# Altium integrated library TI_Logic_Little_Logic.IntLib: 1164 symbols (part 22 of 35)
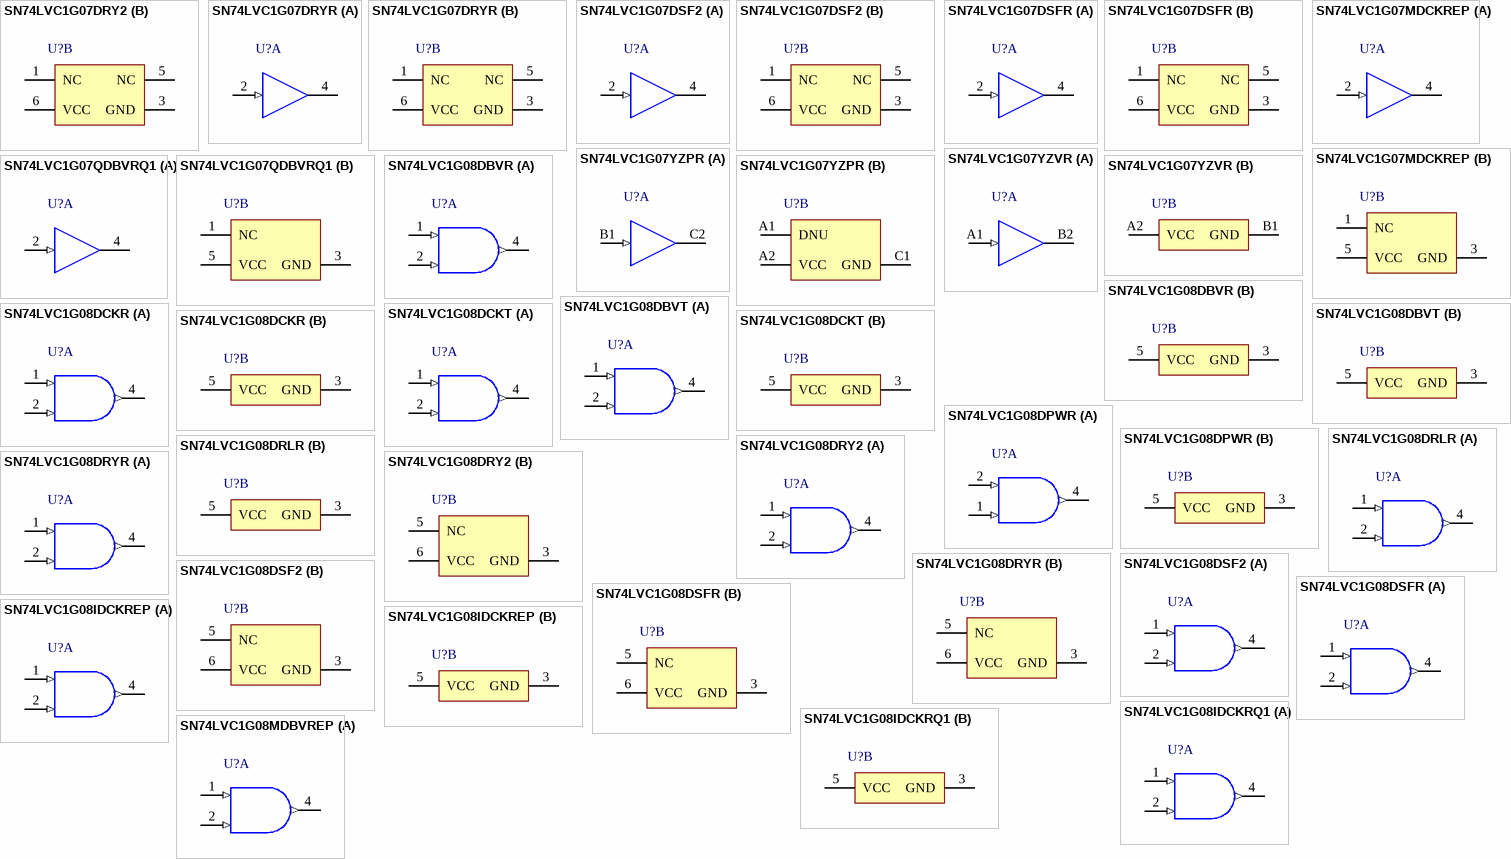
[diagram p81: symbols SN74LVC1G07DRY2 to SN74LVC1G08MDBVREP]

## SN74LVC1G08DRY2
designator U?
Single 2-Input Positive-AND Gate, DRY0006A, LARGE T&R; Generic Part Number: SN74LVC1G08; Manufacturer: Texas Instruments; PartNumber: SN74LVC1G08DRY2; VCC(Min)(V): 1.65; VCC(Max)(V): 5.5; Output Type: CMOS; ICC @ Nom Voltage(Max)(mA): 0.01; Input Type: CMOS/TTL; Bits(#): 1; F @ Nom Voltage(Max)(Mhz): 150; Rating: Catalog; Technology Family: LVC; Voltage(Nom)(V): 1.8,2.5,3.3,5; Schmitt Trigger: No; Output Drive (IOL/IOH)(Max)(mA): 32/-32; tpd @ Nom Voltage(Max)(ns): 4.5,6,4,5; Logic: True; Gate Type: AND; DatasheetVersion: SCES217Y; PackageReference: DRY0006A; Supplier 1: Mouser; Supplier Part Number 1: 595-SN74LVC1G08DRY2; Supplier 2: Digi-Key; Supplier Part Number 2: SN74LVC1G08DRY2-ND; Operating Temperature Range(C): -40 to 125,-40 to 85; Sub-Family: AND Gate; 3-State Output: No; ComponentLink1Description: Manufacturer URL; ComponentLink1URL: http://www.ti.com/; ComponentLink2Description: Datasheet; ComponentLink2URL: http://www.ti.com/lit/ds/symlink/sn74lvc1g08.pdf
footprint DRY0006A_V (SON, 6-Leads, Body 1.45x1mm, Pitch 0.5mm)
part A pins: 1 A (in) "Input A", 2 B (in) "Input B", 4 Y (out) "Output Y"
part B pins: 3 GND (power) "Ground", 5 NC "No internal connection", 6 VCC (power) "Power Pin"

## SN74LVC1G08DRYR
designator U?
Single 2-Input Positive-AND Gate, DRY0006A, LARGE T&R; Generic Part Number: SN74LVC1G08; Manufacturer: Texas Instruments; PartNumber: SN74LVC1G08DRYR; VCC(Min)(V): 1.65; VCC(Max)(V): 5.5; Output Type: CMOS; ICC @ Nom Voltage(Max)(mA): 0.01; Input Type: CMOS/TTL; Bits(#): 1; F @ Nom Voltage(Max)(Mhz): 150; Rating: Catalog; Technology Family: LVC; Voltage(Nom)(V): 1.8,2.5,3.3,5; Schmitt Trigger: No; Output Drive (IOL/IOH)(Max)(mA): 32/-32; tpd @ Nom Voltage(Max)(ns): 4.5,6,4,5; Logic: True; Gate Type: AND; DatasheetVersion: SCES217Y; PackageReference: DRY0006A; Supplier 1: Mouser; Supplier Part Number 1: 595-SN74LVC1G08DRYR; Supplier 2: Digi-Key; Supplier Part Number 2: 296-21815-2-ND; Supplier 3: Digi-Key; Supplier Part Number 3: 296-21815-1-ND; Supplier 4: Digi-Key; Supplier Part Number 4: 296-21815-6-ND; Operating Temperature Range(C): -40 to 125,-40 to 85; Sub-Family: AND Gate; 3-State Output: No; ComponentLink1Description: Manufacturer URL; ComponentLink1URL: http://www.ti.com/; ComponentLink2Description: Datasheet; ComponentLink2URL: http://www.ti.com/lit/ds/symlink/sn74lvc1g08.pdf
footprint DRY0006A_V (SON, 6-Leads, Body 1.45x1mm, Pitch 0.5mm)
part A pins: 1 A (in) "Input A", 2 B (in) "Input B", 4 Y (out) "Output Y"
part B pins: 3 GND (power) "Ground", 5 NC "No internal connection", 6 VCC (power) "Power Pin"

## SN74LVC1G08DSF2
designator U?
Single 2-Input Positive-AND Gate, DSF0006A, LARGE T&R; Generic Part Number: SN74LVC1G08; Manufacturer: Texas Instruments; PartNumber: SN74LVC1G08DSF2; VCC(Min)(V): 1.65; VCC(Max)(V): 5.5; Output Type: CMOS; ICC @ Nom Voltage(Max)(mA): 0.01; Input Type: CMOS/TTL; Bits(#): 1; F @ Nom Voltage(Max)(Mhz): 150; Rating: Catalog; Technology Family: LVC; Voltage(Nom)(V): 1.8,2.5,3.3,5; Schmitt Trigger: No; Output Drive (IOL/IOH)(Max)(mA): 32/-32; tpd @ Nom Voltage(Max)(ns): 4.5,6,4,5; Logic: True; Gate Type: AND; DatasheetVersion: SCES217Y; PackageReference: DSF0006A; Supplier 1: Mouser; Supplier Part Number 1: 595-SN74LVC1G08DSF2; Supplier 2: Digi-Key; Supplier Part Number 2: SN74LVC1G08DSF2-ND; Operating Temperature Range(C): -40 to 125,-40 to 85; Sub-Family: AND Gate; 3-State Output: No; ComponentLink1Description: Manufacturer URL; ComponentLink1URL: http://www.ti.com/; ComponentLink2Description: Datasheet; ComponentLink2URL: http://www.ti.com/lit/ds/symlink/sn74lvc1g08.pdf
footprint DSF0006A_V (SON, 6-Leads, Body 1x1mm, Pitch 0.35mm, TI Recommend)
part A pins: 1 A (in) "Input A", 2 B (in) "Input B", 4 Y (out) "Output Y"
part B pins: 3 GND (power) "Ground", 5 NC "No internal connection", 6 VCC (power) "Power Pin"

## SN74LVC1G08DSFR
designator U?
Single 2-Input Positive-AND Gate, DSF0006A, LARGE T&R; Generic Part Number: SN74LVC1G08; Manufacturer: Texas Instruments; PartNumber: SN74LVC1G08DSFR; VCC(Min)(V): 1.65; VCC(Max)(V): 5.5; Output Type: CMOS; ICC @ Nom Voltage(Max)(mA): 0.01; Input Type: CMOS/TTL; Bits(#): 1; F @ Nom Voltage(Max)(Mhz): 150; Rating: Catalog; Technology Family: LVC; Voltage(Nom)(V): 1.8,2.5,3.3,5; Schmitt Trigger: No; Output Drive (IOL/IOH)(Max)(mA): 32/-32; tpd @ Nom Voltage(Max)(ns): 4.5,6,4,5; Logic: True; Gate Type: AND; DatasheetVersion: SCES217Y; PackageReference: DSF0006A; Supplier 1: Mouser; Supplier Part Number 1: 595-SN74LVC1G08DSFR; Supplier 2: Digi-Key; Supplier Part Number 2: 296-28375-2-ND; Supplier 3: Digi-Key; Supplier Part Number 3: 296-28375-1-ND; Supplier 4: Digi-Key; Supplier Part Number 4: 296-28375-6-ND; Operating Temperature Range(C): -40 to 125,-40 to 85; Sub-Family: AND Gate; 3-State Output: No; ComponentLink1Description: Manufacturer URL; ComponentLink1URL: http://www.ti.com/; ComponentLink2Description: Datasheet; ComponentLink2URL: http://www.ti.com/lit/ds/symlink/sn74lvc1g08.pdf
footprint DSF0006A_V (SON, 6-Leads, Body 1x1mm, Pitch 0.35mm, TI Recommend)
part A pins: 1 A (in) "Input A", 2 B (in) "Input B", 4 Y (out) "Output Y"
part B pins: 3 GND (power) "Ground", 5 NC "No internal connection", 6 VCC (power) "Power Pin"

## SN74LVC1G08IDCKREP
designator U?
Enhanced Product Single 2-Input Positive-And Gate, DCK0005A, LARGE T&R; Generic Part Number: SN74LVC1G08-EP; Manufacturer: Texas Instruments; PartNumber: SN74LVC1G08IDCKREP; VCC(Min)(V): 1.65; VCC(Max)(V): 5.5; Output Type: CMOS; ICC @ Nom Voltage(Max)(mA): 0.01; Input Type: CMOS/TTL; Bits(#): 1; F @ Nom Voltage(Max)(Mhz): 150; Rating: HiRel Enhanced Product; Technology Family: LVC; Voltage(Nom)(V): 1.8,2.5,3.3,5; Schmitt Trigger: No; Output Drive (IOL/IOH)(Max)(mA): 32/-32; tpd @ Nom Voltage(Max)(ns): 8,5.5,4.5,4; Logic: True; Gate Type: AND; DatasheetVersion: SCES454C; PackageReference: DCK0005A; Supplier 1: Mouser; Supplier Part Number 1: 595-SN74LVC08IDCKREP; Supplier 2: Digi-Key; Supplier Part Number 2: 296-22344-2-ND; Supplier 3: Digi-Key; Supplier Part Number 3: 296-22344-1-ND; Supplier 4: Digi-Key; Supplier Part Number 4: 296-22344-6-ND; Operating Temperature Range(C): -40 to 85,-55 to 125; Sub-Family: AND Gate; 3-State Output: No; ComponentLink1Description: Manufacturer URL; ComponentLink1URL: http://www.ti.com/; ComponentLink2Description: Datasheet; ComponentLink2URL: http://www.ti.com/lit/ds/symlink/sn74lvc1g08-ep.pdf
footprint DCK0005A_N (SOT23, 5-Leads, Body 2.15x1.4mm, Pitch 0.65mm, IPC Medium Density)
footprint DCK0005A_M (SOT23, 5-Leads, Body 2.15x1.4mm, Pitch 0.65mm, IPC Low Density)
footprint DCK0005A_L (SOT23, 5-Leads, Body 2.15x1.4mm, Pitch 0.65mm, IPC High Density)
part A pins: 1 A (in) "Input A", 2 B (in) "Input B", 4 Y (out) "Output Y"
part B pins: 3 GND (power) "Ground Pin", 5 VCC (power) "Power Pin"

## SN74LVC1G08IDCKRQ1
designator U?
Automotive Catalog Single 2-Input Positive-AND Gate, DCK0005A, LARGE T&R; Generic Part Number: SN74LVC1G08-Q1; Manufacturer: Texas Instruments; PartNumber: SN74LVC1G08IDCKRQ1; VCC(Min)(V): 1.65; VCC(Max)(V): 5.5; Output Type: CMOS; ICC @ Nom Voltage(Max)(mA): 0.01; Input Type: CMOS/TTL; Bits(#): 1; F @ Nom Voltage(Max)(Mhz): 150; Technology Family: LVC; Voltage(Nom)(V): 1.8,2.5,3.3,5; Schmitt Trigger: No; Output Drive (IOL/IOH)(Max)(mA): 32/-32; tpd @ Nom Voltage(Max)(ns): 8,5.5,4.5,4; Logic: True; Gate Type: AND; DatasheetVersion: SCES556F; PackageReference: DCK0005A; Supplier 1: Mouser; Supplier Part Number 1: 595-SN74LVC1G08IDCQ1; Supplier 2: Digi-Key; Supplier Part Number 2: SN74LVC1G08IDCKRQ1-ND; Operating Temperature Range(C): -40 to 125,-40 to 85; Rating: Automotive; Sub-Family: AND Gate; 3-State Output: No; ComponentLink1Description: Manufacturer URL; ComponentLink1URL: http://www.ti.com/; ComponentLink2Description: Datasheet; ComponentLink2URL: http://www.ti.com/lit/ds/symlink/sn74lvc1g08-q1.pdf
footprint DCK0005A_N (SOT23, 5-Leads, Body 2.15x1.4mm, Pitch 0.65mm, IPC Medium Density)
footprint DCK0005A_M (SOT23, 5-Leads, Body 2.15x1.4mm, Pitch 0.65mm, IPC Low Density)
footprint DCK0005A_L (SOT23, 5-Leads, Body 2.15x1.4mm, Pitch 0.65mm, IPC High Density)
part A pins: 1 A (in) "Input A", 2 B (in) "Input B", 4 Y (out) "Output Y"
part B pins: 3 GND (power) "Ground Pin", 5 VCC (power) "Power Pin"

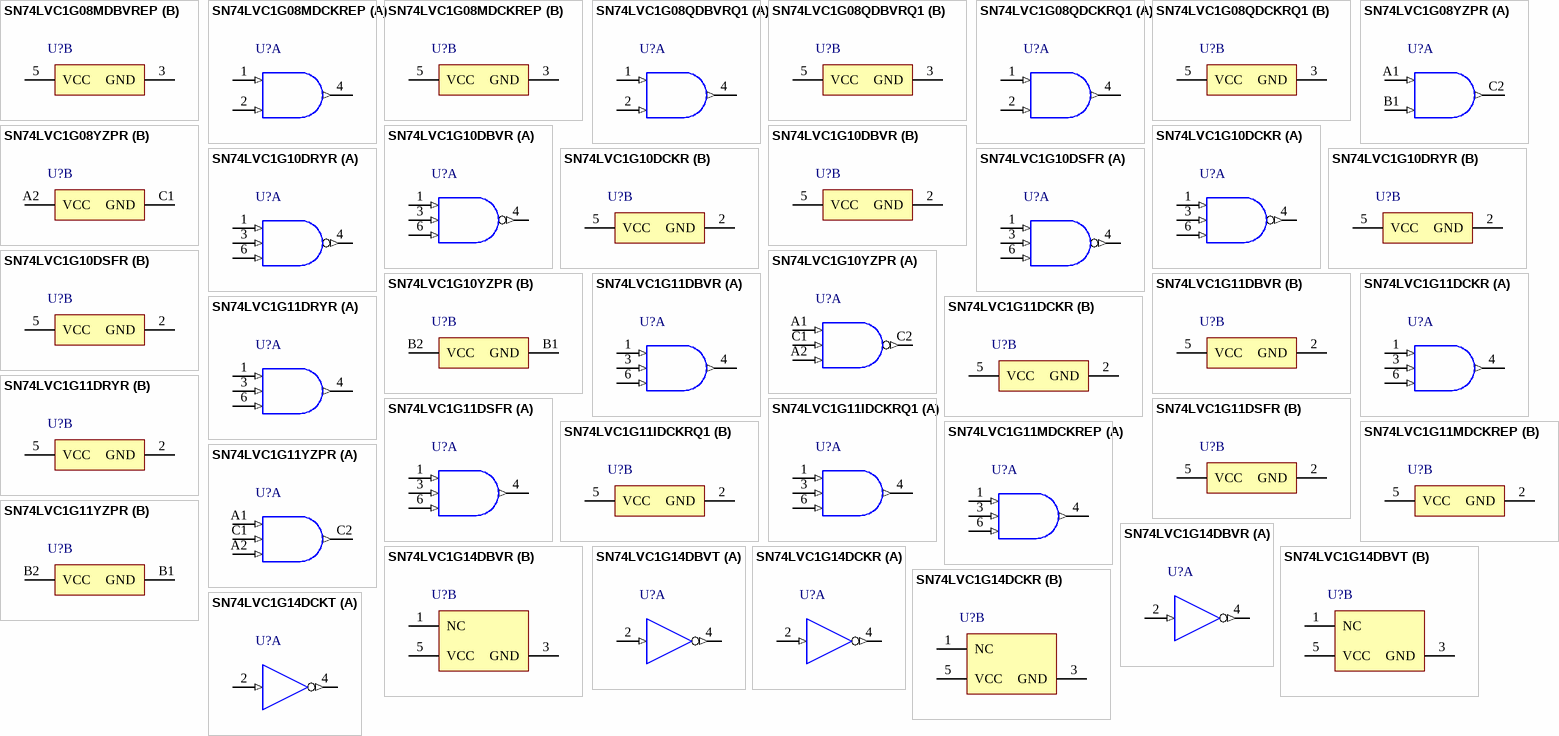
[diagram p37: symbols SN74LVC1G08MDBVREP to SN74LVC1G14DCKT]

## SN74LVC1G08MDBVREP
designator U?
Enhanced Product Single 2-Input Positive-And Gate, DBV0005A, LARGE T&R; Generic Part Number: SN74LVC1G08-EP; Manufacturer: Texas Instruments; PartNumber: SN74LVC1G08MDBVREP; VCC(Min)(V): 1.65; VCC(Max)(V): 5.5; Output Type: CMOS; ICC @ Nom Voltage(Max)(mA): 0.01; Input Type: CMOS/TTL; Bits(#): 1; F @ Nom Voltage(Max)(Mhz): 150; Rating: HiRel Enhanced Product; Technology Family: LVC; Voltage(Nom)(V): 1.8,2.5,3.3,5; Schmitt Trigger: No; Output Drive (IOL/IOH)(Max)(mA): 32/-32; tpd @ Nom Voltage(Max)(ns): 8,5.5,4.5,4; Logic: True; Gate Type: AND; DatasheetVersion: SCES454C; PackageReference: DBV0005A; Supplier 1: Mouser; Supplier Part Number 1: 595-SN74LVC08MDBVREP; Supplier 2: Digi-Key; Supplier Part Number 2: 296-22345-2-ND; Supplier 3: Digi-Key; Supplier Part Number 3: 296-22345-1-ND; Supplier 4: Digi-Key; Supplier Part Number 4: 296-22345-6-ND; Operating Temperature Range(C): -40 to 85,-55 to 125; Sub-Family: AND Gate; 3-State Output: No; ComponentLink1Description: Manufacturer URL; ComponentLink1URL: http://www.ti.com/; ComponentLink2Description: Datasheet; ComponentLink2URL: http://www.ti.com/lit/ds/symlink/sn74lvc1g08-ep.pdf
footprint DBV0005A_N (SOT23, 5-Leads, Body 3.05x1.75mm, Pitch 0.95mm, IPC Medium Density)
footprint DBV0005A_M (SOT23, 5-Leads, Body 3.05x1.75mm, Pitch 0.95mm, IPC Low Density)
footprint DBV0005A_L (SOT23, 5-Leads, Body 3.05x1.75mm, Pitch 0.95mm, IPC High Density)
part A pins: 1 A (in) "Input A", 2 B (in) "Input B", 4 Y (out) "Output Y"
part B pins: 3 GND (power) "Ground Pin", 5 VCC (power) "Power Pin"

## SN74LVC1G08MDCKREP
designator U?
Enhanced Product Single 2-Input Positive-And Gate, DCK0005A, LARGE T&R; Generic Part Number: SN74LVC1G08-EP; Manufacturer: Texas Instruments; PartNumber: SN74LVC1G08MDCKREP; VCC(Min)(V): 1.65; VCC(Max)(V): 5.5; Output Type: CMOS; ICC @ Nom Voltage(Max)(mA): 0.01; Input Type: CMOS/TTL; Bits(#): 1; F @ Nom Voltage(Max)(Mhz): 150; Rating: HiRel Enhanced Product; Technology Family: LVC; Voltage(Nom)(V): 1.8,2.5,3.3,5; Schmitt Trigger: No; Output Drive (IOL/IOH)(Max)(mA): 32/-32; tpd @ Nom Voltage(Max)(ns): 8,5.5,4.5,4; Logic: True; Gate Type: AND; DatasheetVersion: SCES454C; PackageReference: DCK0005A; Supplier 1: Mouser; Supplier Part Number 1: 595-SN74LVC08MDCKREP; Supplier 2: Digi-Key; Supplier Part Number 2: 296-20772-2-ND; Supplier 3: Digi-Key; Supplier Part Number 3: 296-20772-1-ND; Supplier 4: Digi-Key; Supplier Part Number 4: 296-20772-6-ND; Operating Temperature Range(C): -40 to 85,-55 to 125; Sub-Family: AND Gate; 3-State Output: No; ComponentLink1Description: Manufacturer URL; ComponentLink1URL: http://www.ti.com/; ComponentLink2Description: Datasheet; ComponentLink2URL: http://www.ti.com/lit/ds/symlink/sn74lvc1g08-ep.pdf
footprint DCK0005A_N (SOT23, 5-Leads, Body 2.15x1.4mm, Pitch 0.65mm, IPC Medium Density)
footprint DCK0005A_M (SOT23, 5-Leads, Body 2.15x1.4mm, Pitch 0.65mm, IPC Low Density)
footprint DCK0005A_L (SOT23, 5-Leads, Body 2.15x1.4mm, Pitch 0.65mm, IPC High Density)
part A pins: 1 A (in) "Input A", 2 B (in) "Input B", 4 Y (out) "Output Y"
part B pins: 3 GND (power) "Ground Pin", 5 VCC (power) "Power Pin"

## SN74LVC1G08QDBVRQ1
designator U?
Automotive Catalog Single 2-Input Positive-AND Gate, DBV0005A, LARGE T&R; Generic Part Number: SN74LVC1G08-Q1; Manufacturer: Texas Instruments; PartNumber: SN74LVC1G08QDBVRQ1; VCC(Min)(V): 1.65; VCC(Max)(V): 5.5; Output Type: CMOS; ICC @ Nom Voltage(Max)(mA): 0.01; Input Type: CMOS/TTL; Bits(#): 1; F @ Nom Voltage(Max)(Mhz): 150; Technology Family: LVC; Voltage(Nom)(V): 1.8,2.5,3.3,5; Schmitt Trigger: No; Output Drive (IOL/IOH)(Max)(mA): 32/-32; tpd @ Nom Voltage(Max)(ns): 8,5.5,4.5,4; Logic: True; Gate Type: AND; DatasheetVersion: SCES556F; PackageReference: DBV0005A; Supplier 1: Mouser; Supplier Part Number 1: 595-SN74LVC1G08QDBQ1; Supplier 2: Digi-Key; Supplier Part Number 2: 296-24187-2-ND; Supplier 3: Digi-Key; Supplier Part Number 3: 296-24187-1-ND; Supplier 4: Digi-Key; Supplier Part Number 4: 296-24187-6-ND; Operating Temperature Range(C): -40 to 125,-40 to 85; Rating: Automotive; Sub-Family: AND Gate; 3-State Output: No; ComponentLink1Description: Manufacturer URL; ComponentLink1URL: http://www.ti.com/; ComponentLink2Description: Datasheet; ComponentLink2URL: http://www.ti.com/lit/ds/symlink/sn74lvc1g08-q1.pdf
footprint DBV0005A_N (SOT23, 5-Leads, Body 3.05x1.75mm, Pitch 0.95mm, IPC Medium Density)
footprint DBV0005A_M (SOT23, 5-Leads, Body 3.05x1.75mm, Pitch 0.95mm, IPC Low Density)
footprint DBV0005A_L (SOT23, 5-Leads, Body 3.05x1.75mm, Pitch 0.95mm, IPC High Density)
part A pins: 1 A (in) "Input A", 2 B (in) "Input B", 4 Y (out) "Output Y"
part B pins: 3 GND (power) "Ground Pin", 5 VCC (power) "Power Pin"

## SN74LVC1G08QDCKRQ1
designator U?
Automotive Catalog Single 2-Input Positive-AND Gate, DCK0005A, LARGE T&R; Generic Part Number: SN74LVC1G08-Q1; Manufacturer: Texas Instruments; PartNumber: SN74LVC1G08QDCKRQ1; VCC(Min)(V): 1.65; VCC(Max)(V): 5.5; Output Type: CMOS; ICC @ Nom Voltage(Max)(mA): 0.01; Input Type: CMOS/TTL; Bits(#): 1; F @ Nom Voltage(Max)(Mhz): 150; Technology Family: LVC; Voltage(Nom)(V): 1.8,2.5,3.3,5; Schmitt Trigger: No; Output Drive (IOL/IOH)(Max)(mA): 32/-32; tpd @ Nom Voltage(Max)(ns): 8,5.5,4.5,4; Logic: True; Gate Type: AND; DatasheetVersion: SCES556F; PackageReference: DCK0005A; Supplier 1: Mouser; Supplier Part Number 1: 595-SN74LVC1G08QDCQ1; Supplier 2: Digi-Key; Supplier Part Number 2: 296-20728-2-ND; Supplier 3: Digi-Key; Supplier Part Number 3: 296-20728-1-ND; Supplier 4: Digi-Key; Supplier Part Number 4: 296-20728-6-ND; Operating Temperature Range(C): -40 to 125,-40 to 85; Rating: Automotive; Sub-Family: AND Gate; 3-State Output: No; ComponentLink1Description: Manufacturer URL; ComponentLink1URL: http://www.ti.com/; ComponentLink2Description: Datasheet; ComponentLink2URL: http://www.ti.com/lit/ds/symlink/sn74lvc1g08-q1.pdf
footprint DCK0005A_N (SOT23, 5-Leads, Body 2.15x1.4mm, Pitch 0.65mm, IPC Medium Density)
footprint DCK0005A_M (SOT23, 5-Leads, Body 2.15x1.4mm, Pitch 0.65mm, IPC Low Density)
footprint DCK0005A_L (SOT23, 5-Leads, Body 2.15x1.4mm, Pitch 0.65mm, IPC High Density)
part A pins: 1 A (in) "Input A", 2 B (in) "Input B", 4 Y (out) "Output Y"
part B pins: 3 GND (power) "Ground Pin", 5 VCC (power) "Power Pin"

## SN74LVC1G08YZPR
designator U?
Single 2-Input Positive-AND Gate, YZP0005ADAD, LARGE T&R; Generic Part Number: SN74LVC1G08; Manufacturer: Texas Instruments; PartNumber: SN74LVC1G08YZPR; VCC(Min)(V): 1.65; VCC(Max)(V): 5.5; Output Type: CMOS; ICC @ Nom Voltage(Max)(mA): 0.01; Input Type: CMOS/TTL; Bits(#): 1; F @ Nom Voltage(Max)(Mhz): 150; Rating: Catalog; Technology Family: LVC; Voltage(Nom)(V): 1.8,2.5,3.3,5; Schmitt Trigger: No; Output Drive (IOL/IOH)(Max)(mA): 32/-32; tpd @ Nom Voltage(Max)(ns): 4.5,6,4,5; Logic: True; Gate Type: AND; DatasheetVersion: SCES217Y; PackageReference: YZP0005ADAD; Supplier 1: Mouser; Supplier Part Number 1: 595-SN74LVC1G08YZPR; Supplier 2: Digi-Key; Supplier Part Number 2: 296-14358-2-ND; Supplier 3: Digi-Key; Supplier Part Number 3: 296-14358-1-ND; Supplier 4: Digi-Key; Supplier Part Number 4: 296-14358-6-ND; Operating Temperature Range(C): -40 to 125,-40 to 85; Sub-Family: AND Gate; 3-State Output: No; ComponentLink1Description: Manufacturer URL; ComponentLink1URL: http://www.ti.com/; ComponentLink2Description: Datasheet; ComponentLink2URL: http://www.ti.com/lit/ds/symlink/sn74lvc1g08.pdf
footprint YZP0005ADAD (BGA, 5-Balls, Body 1.39x0.89mm, Pitch 0.5mm)
part A pins: A1 A (in) "Input", B1 B (in) "Input", C2 Y (out) "Output"
part B pins: A2 VCC (power) "Power pin", C1 GND (power) "Ground"

## SN74LVC1G10DBVR
designator U?
Single 3-Input Positive-NAND Gate, DBV0006A, LARGE T&R; Generic Part Number: SN74LVC1G10; Manufacturer: Texas Instruments; PartNumber: SN74LVC1G10DBVR; VCC(Min)(V): 1.65; VCC(Max)(V): 5.5; Output Type: CMOS; ICC @ Nom Voltage(Max)(mA): 0.01; Input Type: CMOS/TTL; Bits(#): 1; F @ Nom Voltage(Max)(Mhz): 150; Rating: Catalog; Technology Family: LVC; Voltage(Nom)(V): 1.8,2.5,3.3,5; Schmitt Trigger: No; Output Drive (IOL/IOH)(Max)(mA): 32/-32; tpd @ Nom Voltage(Max)(ns): 18,6.5,5,3.6; Logic: True; Gate Type: NAND; DatasheetVersion: SCES486E; PackageReference: DBV0006A; Supplier 1: Mouser; Supplier Part Number 1: 595-SN74LVC1G10DBVR; Supplier 2: Digi-Key; Supplier Part Number 2: 296-18755-2-ND; Supplier 3: Digi-Key; Supplier Part Number 3: 296-18755-1-ND; Supplier 4: Digi-Key; Supplier Part Number 4: 296-18755-6-ND; Operating Temperature Range(C): -40 to 125,-40 to 85; Sub-Family: NAND Gate; 3-State Output: No; ComponentLink1Description: Manufacturer URL; ComponentLink1URL: http://www.ti.com/; ComponentLink2Description: Datasheet; ComponentLink2URL: http://www.ti.com/lit/ds/symlink/sn74lvc1g10.pdf
footprint DBV0006A_N (SOT23, 6-Leads, Body 3.05x1.75mm, Pitch 0.95mm, IPC Medium Density)
footprint DBV0006A_M (SOT23, 6-Leads, Body 3.05x1.75mm, Pitch 0.95mm, IPC Low Density)
footprint DBV0006A_L (SOT23, 6-Leads, Body 3.05x1.75mm, Pitch 0.95mm, IPC High Density)
part A pins: 1 A (in), 3 B (in), 4 Y (out), 6 C (in)
part B pins: 2 GND (power), 5 VCC (power)

## SN74LVC1G10DCKR
designator U?
Single 3-Input Positive-NAND Gate, DCK0006A, LARGE T&R; Generic Part Number: SN74LVC1G10; Manufacturer: Texas Instruments; PartNumber: SN74LVC1G10DCKR; VCC(Min)(V): 1.65; VCC(Max)(V): 5.5; Output Type: CMOS; ICC @ Nom Voltage(Max)(mA): 0.01; Input Type: CMOS/TTL; Bits(#): 1; F @ Nom Voltage(Max)(Mhz): 150; Rating: Catalog; Technology Family: LVC; Voltage(Nom)(V): 1.8,2.5,3.3,5; Schmitt Trigger: No; Output Drive (IOL/IOH)(Max)(mA): 32/-32; tpd @ Nom Voltage(Max)(ns): 18,6.5,5,3.6; Logic: True; Gate Type: NAND; DatasheetVersion: SCES486E; PackageReference: DCK0006A; Supplier 1: Mouser; Supplier Part Number 1: 595-SN74LVC1G10DCKR; Supplier 2: Digi-Key; Supplier Part Number 2: 296-17844-2-ND; Supplier 3: Digi-Key; Supplier Part Number 3: 296-17844-1-ND; Supplier 4: Digi-Key; Supplier Part Number 4: 296-17844-6-ND; Operating Temperature Range(C): -40 to 125,-40 to 85; Sub-Family: NAND Gate; 3-State Output: No; ComponentLink1Description: Manufacturer URL; ComponentLink1URL: http://www.ti.com/; ComponentLink2Description: Datasheet; ComponentLink2URL: http://www.ti.com/lit/ds/symlink/sn74lvc1g10.pdf
footprint DCK0006A_N (SOT23, 6-Leads, Body 2.15x1.4mm, Pitch 0.65mm, IPC Medium Density)
footprint DCK0006A_M (SOT23, 6-Leads, Body 2.15x1.4mm, Pitch 0.65mm, IPC Low Density)
footprint DCK0006A_L (SOT23, 6-Leads, Body 2.15x1.4mm, Pitch 0.65mm, IPC High Density)
part A pins: 1 A (in), 3 B (in), 4 Y (out), 6 C (in)
part B pins: 2 GND (power), 5 VCC (power)

## SN74LVC1G10DRYR
designator U?
Single 3-Input Positive-NAND Gate, DRY0006A, LARGE T&R; Generic Part Number: SN74LVC1G10; Manufacturer: Texas Instruments; PartNumber: SN74LVC1G10DRYR; VCC(Min)(V): 1.65; VCC(Max)(V): 5.5; Output Type: CMOS; ICC @ Nom Voltage(Max)(mA): 0.01; Input Type: CMOS/TTL; Bits(#): 1; F @ Nom Voltage(Max)(Mhz): 150; Rating: Catalog; Technology Family: LVC; Voltage(Nom)(V): 1.8,2.5,3.3,5; Schmitt Trigger: No; Output Drive (IOL/IOH)(Max)(mA): 32/-32; tpd @ Nom Voltage(Max)(ns): 18,6.5,5,3.6; Logic: True; Gate Type: NAND; DatasheetVersion: SCES486E; PackageReference: DRY0006A; Supplier 1: Mouser; Supplier Part Number 1: 595-SN74LVC1G10DRYR; Supplier 2: Digi-Key; Supplier Part Number 2: 296-30118-2-ND; Supplier 3: Digi-Key; Supplier Part Number 3: 296-30118-1-ND; Supplier 4: Digi-Key; Supplier Part Number 4: 296-30118-6-ND; Operating Temperature Range(C): -40 to 125,-40 to 85; Sub-Family: NAND Gate; 3-State Output: No; ComponentLink1Description: Manufacturer URL; ComponentLink1URL: http://www.ti.com/; ComponentLink2Description: Datasheet; ComponentLink2URL: http://www.ti.com/lit/ds/symlink/sn74lvc1g10.pdf
footprint DRY0006A_V (SON, 6-Leads, Body 1.45x1mm, Pitch 0.5mm)
part A pins: 1 A (in), 3 B (in), 4 Y (out), 6 C (in)
part B pins: 2 GND (power), 5 VCC (power)

## SN74LVC1G10DSFR
designator U?
Single 3-Input Positive-NAND Gate, DSF0006A, LARGE T&R; Generic Part Number: SN74LVC1G10; Manufacturer: Texas Instruments; PartNumber: SN74LVC1G10DSFR; VCC(Min)(V): 1.65; VCC(Max)(V): 5.5; Output Type: CMOS; ICC @ Nom Voltage(Max)(mA): 0.01; Input Type: CMOS/TTL; Bits(#): 1; F @ Nom Voltage(Max)(Mhz): 150; Rating: Catalog; Technology Family: LVC; Voltage(Nom)(V): 1.8,2.5,3.3,5; Schmitt Trigger: No; Output Drive (IOL/IOH)(Max)(mA): 32/-32; tpd @ Nom Voltage(Max)(ns): 18,6.5,5,3.6; Logic: True; Gate Type: NAND; DatasheetVersion: SCES486E; PackageReference: DSF0006A; Supplier 1: Mouser; Supplier Part Number 1: 595-SN74LVC1G10DSFR; Supplier 2: Digi-Key; Supplier Part Number 2: 296-30119-2-ND; Supplier 3: Digi-Key; Supplier Part Number 3: 296-30119-1-ND; Supplier 4: Digi-Key; Supplier Part Number 4: 296-30119-6-ND; Operating Temperature Range(C): -40 to 125,-40 to 85; Sub-Family: NAND Gate; 3-State Output: No; ComponentLink1Description: Manufacturer URL; ComponentLink1URL: http://www.ti.com/; ComponentLink2Description: Datasheet; ComponentLink2URL: http://www.ti.com/lit/ds/symlink/sn74lvc1g10.pdf
footprint DSF0006A_V (SON, 6-Leads, Body 1x1mm, Pitch 0.35mm, TI Recommend)
part A pins: 1 A (in), 3 B (in), 4 Y (out), 6 C (in)
part B pins: 2 GND (power), 5 VCC (power)

## SN74LVC1G10YZPR
designator U?
Single 3-Input Positive-NAND Gate, YZP0006ADAD, LARGE T&R; Generic Part Number: SN74LVC1G10; Manufacturer: Texas Instruments; PartNumber: SN74LVC1G10YZPR; VCC(Min)(V): 1.65; VCC(Max)(V): 5.5; Output Type: CMOS; ICC @ Nom Voltage(Max)(mA): 0.01; Input Type: CMOS/TTL; Bits(#): 1; F @ Nom Voltage(Max)(Mhz): 150; Rating: Catalog; Technology Family: LVC; Voltage(Nom)(V): 1.8,2.5,3.3,5; Schmitt Trigger: No; Output Drive (IOL/IOH)(Max)(mA): 32/-32; tpd @ Nom Voltage(Max)(ns): 18,6.5,5,3.6; Logic: True; Gate Type: NAND; DatasheetVersion: SCES486E; PackageReference: YZP0006ADAD; Supplier 1: Mouser; Supplier Part Number 1: 595-SN74LVC1G10YZPR; Supplier 2: Digi-Key; Supplier Part Number 2: 296-18756-2-ND; Supplier 3: Digi-Key; Supplier Part Number 3: 296-18756-1-ND; Supplier 4: Digi-Key; Supplier Part Number 4: 296-18756-6-ND; Operating Temperature Range(C): -40 to 125,-40 to 85; Sub-Family: NAND Gate; 3-State Output: No; ComponentLink1Description: Manufacturer URL; ComponentLink1URL: http://www.ti.com/; ComponentLink2Description: Datasheet; ComponentLink2URL: http://www.ti.com/lit/ds/symlink/sn74lvc1g10.pdf
footprint YZP0006ADAD (BGA, 6-Balls, Body 1.39x0.89mm, Pitch 0.5mm)
part A pins: A1 A (in), A2 C (in), C1 B (in), C2 Y (out)
part B pins: B1 GND (power), B2 VCC (power)

## SN74LVC1G11DBVR
designator U?
Single 3-Input Positive-AND Gate, DBV0006A, LARGE T&R; Generic Part Number: SN74LVC1G11; Manufacturer: Texas Instruments; PartNumber: SN74LVC1G11DBVR; VCC(Min)(V): 1.65; VCC(Max)(V): 5.5; Output Type: CMOS; ICC @ Nom Voltage(Max)(mA): 0.01; Input Type: CMOS/TTL; Bits(#): 1; F @ Nom Voltage(Max)(Mhz): 150; Rating: Catalog; Technology Family: LVC; Voltage(Nom)(V): 1.8,2.5,3.3,5; Schmitt Trigger: No; Output Drive (IOL/IOH)(Max)(mA): 32/-32; tpd @ Nom Voltage(Max)(ns): 20,7.8,6.2,4.6; Logic: True; Gate Type: AND; DatasheetVersion: SCES487F; PackageReference: DBV0006A; Supplier 1: Mouser; Supplier Part Number 1: 595-SN74LVC1G11DBVR; Supplier 2: Digi-Key; Supplier Part Number 2: 296-16810-2-ND; Supplier 3: Digi-Key; Supplier Part Number 3: 296-16810-1-ND; Supplier 4: Digi-Key; Supplier Part Number 4: 296-16810-6-ND; Operating Temperature Range(C): -40 to 125,-40 to 85; Sub-Family: AND Gate; 3-State Output: No; ComponentLink1Description: Manufacturer URL; ComponentLink1URL: http://www.ti.com/; ComponentLink2Description: Datasheet; ComponentLink2URL: http://www.ti.com/lit/ds/symlink/sn74lvc1g11.pdf
footprint DBV0006A_N (SOT23, 6-Leads, Body 3.05x1.75mm, Pitch 0.95mm, IPC Medium Density)
footprint DBV0006A_M (SOT23, 6-Leads, Body 3.05x1.75mm, Pitch 0.95mm, IPC Low Density)
footprint DBV0006A_L (SOT23, 6-Leads, Body 3.05x1.75mm, Pitch 0.95mm, IPC High Density)
part A pins: 1 A (in), 3 B (in), 4 Y (out), 6 C (in)
part B pins: 2 GND (power), 5 VCC (power)

## SN74LVC1G11DCKR
designator U?
Single 3-Input Positive-AND Gate, DCK0006A, LARGE T&R; Generic Part Number: SN74LVC1G11; Manufacturer: Texas Instruments; PartNumber: SN74LVC1G11DCKR; VCC(Min)(V): 1.65; VCC(Max)(V): 5.5; Output Type: CMOS; ICC @ Nom Voltage(Max)(mA): 0.01; Input Type: CMOS/TTL; Bits(#): 1; F @ Nom Voltage(Max)(Mhz): 150; Rating: Catalog; Technology Family: LVC; Voltage(Nom)(V): 1.8,2.5,3.3,5; Schmitt Trigger: No; Output Drive (IOL/IOH)(Max)(mA): 32/-32; tpd @ Nom Voltage(Max)(ns): 20,7.8,6.2,4.6; Logic: True; Gate Type: AND; DatasheetVersion: SCES487F; PackageReference: DCK0006A; Supplier 1: Mouser; Supplier Part Number 1: 595-SN74LVC1G11DCKR; Supplier 2: Digi-Key; Supplier Part Number 2: 296-18066-2-ND; Supplier 3: Digi-Key; Supplier Part Number 3: 296-18066-1-ND; Supplier 4: Digi-Key; Supplier Part Number 4: 296-18066-6-ND; Operating Temperature Range(C): -40 to 125,-40 to 85; Sub-Family: AND Gate; 3-State Output: No; ComponentLink1Description: Manufacturer URL; ComponentLink1URL: http://www.ti.com/; ComponentLink2Description: Datasheet; ComponentLink2URL: http://www.ti.com/lit/ds/symlink/sn74lvc1g11.pdf
footprint DCK0006A_N (SOT23, 6-Leads, Body 2.15x1.4mm, Pitch 0.65mm, IPC Medium Density)
footprint DCK0006A_M (SOT23, 6-Leads, Body 2.15x1.4mm, Pitch 0.65mm, IPC Low Density)
footprint DCK0006A_L (SOT23, 6-Leads, Body 2.15x1.4mm, Pitch 0.65mm, IPC High Density)
part A pins: 1 A (in), 3 B (in), 4 Y (out), 6 C (in)
part B pins: 2 GND (power), 5 VCC (power)

## SN74LVC1G11DRYR
designator U?
Single 3-Input Positive-AND Gate, DRY0006A, LARGE T&R; Generic Part Number: SN74LVC1G11; Manufacturer: Texas Instruments; PartNumber: SN74LVC1G11DRYR; VCC(Min)(V): 1.65; VCC(Max)(V): 5.5; Output Type: CMOS; ICC @ Nom Voltage(Max)(mA): 0.01; Input Type: CMOS/TTL; Bits(#): 1; F @ Nom Voltage(Max)(Mhz): 150; Rating: Catalog; Technology Family: LVC; Voltage(Nom)(V): 1.8,2.5,3.3,5; Schmitt Trigger: No; Output Drive (IOL/IOH)(Max)(mA): 32/-32; tpd @ Nom Voltage(Max)(ns): 20,7.8,6.2,4.6; Logic: True; Gate Type: AND; DatasheetVersion: SCES487F; PackageReference: DRY0006A; Supplier 1: Mouser; Supplier Part Number 1: 595-SN74LVC1G11DRYR; Supplier 2: Digi-Key; Supplier Part Number 2: 296-30120-2-ND; Supplier 3: Digi-Key; Supplier Part Number 3: 296-30120-1-ND; Supplier 4: Digi-Key; Supplier Part Number 4: 296-30120-6-ND; Operating Temperature Range(C): -40 to 125,-40 to 85; Sub-Family: AND Gate; 3-State Output: No; ComponentLink1Description: Manufacturer URL; ComponentLink1URL: http://www.ti.com/; ComponentLink2Description: Datasheet; ComponentLink2URL: http://www.ti.com/lit/ds/symlink/sn74lvc1g11.pdf
footprint DRY0006A_V (SON, 6-Leads, Body 1.45x1mm, Pitch 0.5mm)
part A pins: 1 A (in), 3 B (in), 4 Y (out), 6 C (in)
part B pins: 2 GND (power), 5 VCC (power)

## SN74LVC1G11DSFR
designator U?
Single 3-Input Positive-AND Gate, DSF0006A, LARGE T&R; Generic Part Number: SN74LVC1G11; Manufacturer: Texas Instruments; PartNumber: SN74LVC1G11DSFR; VCC(Min)(V): 1.65; VCC(Max)(V): 5.5; Output Type: CMOS; ICC @ Nom Voltage(Max)(mA): 0.01; Input Type: CMOS/TTL; Bits(#): 1; F @ Nom Voltage(Max)(Mhz): 150; Rating: Catalog; Technology Family: LVC; Voltage(Nom)(V): 1.8,2.5,3.3,5; Schmitt Trigger: No; Output Drive (IOL/IOH)(Max)(mA): 32/-32; tpd @ Nom Voltage(Max)(ns): 20,7.8,6.2,4.6; Logic: True; Gate Type: AND; DatasheetVersion: SCES487F; PackageReference: DSF0006A; Supplier 1: Mouser; Supplier Part Number 1: 595-SN74LVC1G11DSFR; Supplier 2: Digi-Key; Supplier Part Number 2: 296-30121-2-ND; Supplier 3: Digi-Key; Supplier Part Number 3: 296-30121-1-ND; Supplier 4: Digi-Key; Supplier Part Number 4: 296-30121-6-ND; Operating Temperature Range(C): -40 to 125,-40 to 85; Sub-Family: AND Gate; 3-State Output: No; ComponentLink1Description: Manufacturer URL; ComponentLink1URL: http://www.ti.com/; ComponentLink2Description: Datasheet; ComponentLink2URL: http://www.ti.com/lit/ds/symlink/sn74lvc1g11.pdf
footprint DSF0006A_V (SON, 6-Leads, Body 1x1mm, Pitch 0.35mm, TI Recommend)
part A pins: 1 A (in), 3 B (in), 4 Y (out), 6 C (in)
part B pins: 2 GND (power), 5 VCC (power)

## SN74LVC1G11IDCKRQ1
designator U?
Automotive Catalog Single 3-Input Positive-AND Gate, DCK0006A, LARGE T&R; Generic Part Number: SN74LVC1G11-Q1; Manufacturer: Texas Instruments; PartNumber: SN74LVC1G11IDCKRQ1; VCC(Min)(V): 1.65; VCC(Max)(V): 5.5; Output Type: CMOS; ICC @ Nom Voltage(Max)(mA): 0.01; Input Type: CMOS/TTL; Bits(#): 1; F @ Nom Voltage(Max)(Mhz): 150; Technology Family: LVC; Voltage(Nom)(V): 1.8,2.5,3.3,5; Schmitt Trigger: No; Output Drive (IOL/IOH)(Max)(mA): 32/-32; tpd @ Nom Voltage(Max)(ns): 17.2,6.9,4.9,3.5; Logic: True; Gate Type: AND; DatasheetVersion: SCES827; PackageReference: DCK0006A; Supplier 1: Mouser; Supplier Part Number 1: 595-74LVC1G11IDCKRQ1; Supplier 2: Digi-Key; Supplier Part Number 2: 296-36722-2-ND; Supplier 3: Digi-Key; Supplier Part Number 3: 296-36722-1-ND; Supplier 4: Digi-Key; Supplier Part Number 4: 296-36722-6-ND; Operating Temperature Range(C): -40 to 85; Rating: Automotive; Sub-Family: AND Gate; 3-State Output: No; ComponentLink1Description: Manufacturer URL; ComponentLink1URL: http://www.ti.com/; ComponentLink2Description: Datasheet; ComponentLink2URL: http://www.ti.com/lit/ds/symlink/sn74lvc1g11-q1.pdf
footprint DCK0006A_N (SOT23, 6-Leads, Body 2.15x1.4mm, Pitch 0.65mm, IPC Medium Density)
footprint DCK0006A_M (SOT23, 6-Leads, Body 2.15x1.4mm, Pitch 0.65mm, IPC Low Density)
footprint DCK0006A_L (SOT23, 6-Leads, Body 2.15x1.4mm, Pitch 0.65mm, IPC High Density)
part A pins: 1 A (in), 3 B (in), 4 Y (out), 6 C (in)
part B pins: 2 GND (power), 5 VCC (power)

## SN74LVC1G11MDCKREP
designator U?
Enhanced Product Single 3-Input Positive AND Gate, DCK0006A, LARGE T&R; Generic Part Number: SN74LVC1G11-EP; Manufacturer: Texas Instruments; PartNumber: SN74LVC1G11MDCKREP; VCC(Min)(V): 1.65; VCC(Max)(V): 5.5; Output Type: CMOS; ICC @ Nom Voltage(Max)(mA): 0.01; Input Type: CMOS/TTL; Bits(#): 1; F @ Nom Voltage(Max)(Mhz): 150; Rating: HiRel Enhanced Product; Technology Family: LVC; Voltage(Nom)(V): 1.8,2.5,3.3,5; Schmitt Trigger: No; Output Drive (IOL/IOH)(Max)(mA): 32/-32; tpd @ Nom Voltage(Max)(ns): 17.2,7.5,5.9,5; Logic: True; DatasheetVersion: SCES787; PackageReference: DCK0006A; Supplier 1: Mouser; Supplier Part Number 1: 595-74LVC1G11MDCKREP; Supplier 2: Digi-Key; Supplier Part Number 2: 296-24876-2-ND; Supplier 3: Digi-Key; Supplier Part Number 3: 296-24876-1-ND; Supplier 4: Digi-Key; Supplier Part Number 4: 296-24876-6-ND; Operating Temperature Range(C): -55 to 125; Gate Type: AND; Sub-Family: AND Gate; 3-State Output: No; ComponentLink1Description: Manufacturer URL; ComponentLink1URL: http://www.ti.com/; ComponentLink2Description: Datasheet; ComponentLink2URL: http://www.ti.com/lit/ds/symlink/sn74lvc1g11-ep.pdf
footprint DCK0006A_N (SOT23, 6-Leads, Body 2.15x1.4mm, Pitch 0.65mm, IPC Medium Density)
footprint DCK0006A_M (SOT23, 6-Leads, Body 2.15x1.4mm, Pitch 0.65mm, IPC Low Density)
footprint DCK0006A_L (SOT23, 6-Leads, Body 2.15x1.4mm, Pitch 0.65mm, IPC High Density)
part A pins: 1 A (in), 3 B (in), 4 Y (out), 6 C (in)
part B pins: 2 GND (power), 5 VCC (power)

## SN74LVC1G11YZPR
designator U?
Single 3-Input Positive-AND Gate, YZP0006ADAD, LARGE T&R; Generic Part Number: SN74LVC1G11; Manufacturer: Texas Instruments; PartNumber: SN74LVC1G11YZPR; VCC(Min)(V): 1.65; VCC(Max)(V): 5.5; Output Type: CMOS; ICC @ Nom Voltage(Max)(mA): 0.01; Input Type: CMOS/TTL; Bits(#): 1; F @ Nom Voltage(Max)(Mhz): 150; Rating: Catalog; Technology Family: LVC; Voltage(Nom)(V): 1.8,2.5,3.3,5; Schmitt Trigger: No; Output Drive (IOL/IOH)(Max)(mA): 32/-32; tpd @ Nom Voltage(Max)(ns): 20,7.8,6.2,4.6; Logic: True; Gate Type: AND; DatasheetVersion: SCES487F; PackageReference: YZP0006ADAD; Supplier 1: Mouser; Supplier Part Number 1: 595-SN74LVC1G11YZPR; Supplier 2: Digi-Key; Supplier Part Number 2: 296-18757-2-ND; Supplier 3: Digi-Key; Supplier Part Number 3: 296-18757-1-ND; Operating Temperature Range(C): -40 to 125,-40 to 85; Sub-Family: AND Gate; 3-State Output: No; ComponentLink1Description: Manufacturer URL; ComponentLink1URL: http://www.ti.com/; ComponentLink2Description: Datasheet; ComponentLink2URL: http://www.ti.com/lit/ds/symlink/sn74lvc1g11.pdf
footprint YZP0006ADAD (BGA, 6-Balls, Body 1.39x0.89mm, Pitch 0.5mm)
part A pins: A1 A (in), A2 C (in), C1 B (in), C2 Y (out)
part B pins: B1 GND (power), B2 VCC (power)

## SN74LVC1G14DBVR
designator U?
Single Schmitt-Trigger Inverter, DBV0005A, LARGE T&R; Generic Part Number: SN74LVC1G14; Manufacturer: Texas Instruments; PartNumber: SN74LVC1G14DBVR; VCC(Min)(V): 1.65; VCC(Max)(V): 5.5; Output Type: CMOS; ICC @ Nom Voltage(Max)(mA): 0.01; Input Type: CMOS/TTL; Bits(#): 1; F @ Nom Voltage(Max)(Mhz): 150; Rating: Catalog; Technology Family: LVC; Voltage(Nom)(V): 1.8,2.5,3.3,5; Schmitt Trigger: Yes; Output Drive (IOL/IOH)(Max)(mA): 32/-32; tpd @ Nom Voltage(Max)(ns): 11,6.5,5.5,5; Logic: Inverting; Sub-Family: Inverting Buffer/Driver; 3-State Output: No; DatasheetVersion: SCES218W; PackageReference: DBV0005A; Supplier 1: Mouser; Supplier Part Number 1: 595-SN74LVC1G14DBVR; Supplier 2: Digi-Key; Supplier Part Number 2: 296-11607-2-ND; Supplier 3: Digi-Key; Supplier Part Number 3: 296-11607-1-ND; Supplier 4: Digi-Key; Supplier Part Number 4: 296-11607-6-ND; Operating Temperature Range(C): -40 to 125,-40 to 85; ComponentLink1Description: Manufacturer URL; ComponentLink1URL: http://www.ti.com/; ComponentLink2Description: Datasheet; ComponentLink2URL: http://www.ti.com/lit/ds/symlink/sn74lvc1g14.pdf
footprint DBV0005A_N (SOT23, 5-Leads, Body 3.05x1.75mm, Pitch 0.95mm, IPC Medium Density)
footprint DBV0005A_M (SOT23, 5-Leads, Body 3.05x1.75mm, Pitch 0.95mm, IPC Low Density)
footprint DBV0005A_L (SOT23, 5-Leads, Body 3.05x1.75mm, Pitch 0.95mm, IPC High Density)
part A pins: 2 A (in) "Input A", 4 Y (out) "Output Y"
part B pins: 1 NC "Ground", 3 GND (power) "Ground Pin", 5 VCC (power) "Power Pin"

## SN74LVC1G14DBVT
designator U?
Single Schmitt-Trigger Inverter, DBV0005A, SMALL T&R; Generic Part Number: SN74LVC1G14; Manufacturer: Texas Instruments; PartNumber: SN74LVC1G14DBVT; VCC(Min)(V): 1.65; VCC(Max)(V): 5.5; Output Type: CMOS; ICC @ Nom Voltage(Max)(mA): 0.01; Input Type: CMOS/TTL; Bits(#): 1; F @ Nom Voltage(Max)(Mhz): 150; Rating: Catalog; Technology Family: LVC; Voltage(Nom)(V): 1.8,2.5,3.3,5; Schmitt Trigger: Yes; Output Drive (IOL/IOH)(Max)(mA): 32/-32; tpd @ Nom Voltage(Max)(ns): 11,6.5,5.5,5; Logic: Inverting; Sub-Family: Inverting Buffer/Driver; 3-State Output: No; DatasheetVersion: SCES218W; PackageReference: DBV0005A; Supplier 1: Mouser; Supplier Part Number 1: 595-SN74LVC1G14DBVT; Supplier 2: Digi-Key; Supplier Part Number 2: 296-26597-2-ND; Supplier 3: Digi-Key; Supplier Part Number 3: 296-26597-1-ND; Supplier 4: Digi-Key; Supplier Part Number 4: 296-26597-6-ND; Operating Temperature Range(C): -40 to 125,-40 to 85; ComponentLink1Description: Manufacturer URL; ComponentLink1URL: http://www.ti.com/; ComponentLink2Description: Datasheet; ComponentLink2URL: http://www.ti.com/lit/ds/symlink/sn74lvc1g14.pdf
footprint DBV0005A_N (SOT23, 5-Leads, Body 3.05x1.75mm, Pitch 0.95mm, IPC Medium Density)
footprint DBV0005A_M (SOT23, 5-Leads, Body 3.05x1.75mm, Pitch 0.95mm, IPC Low Density)
footprint DBV0005A_L (SOT23, 5-Leads, Body 3.05x1.75mm, Pitch 0.95mm, IPC High Density)
part A pins: 2 A (in) "Input A", 4 Y (out) "Output Y"
part B pins: 1 NC "Ground", 3 GND (power) "Ground Pin", 5 VCC (power) "Power Pin"

## SN74LVC1G14DCKR
designator U?
Single Schmitt-Trigger Inverter, DCK0005A, LARGE T&R; Generic Part Number: SN74LVC1G14; Manufacturer: Texas Instruments; PartNumber: SN74LVC1G14DCKR; VCC(Min)(V): 1.65; VCC(Max)(V): 5.5; Output Type: CMOS; ICC @ Nom Voltage(Max)(mA): 0.01; Input Type: CMOS/TTL; Bits(#): 1; F @ Nom Voltage(Max)(Mhz): 150; Rating: Catalog; Technology Family: LVC; Voltage(Nom)(V): 1.8,2.5,3.3,5; Schmitt Trigger: Yes; Output Drive (IOL/IOH)(Max)(mA): 32/-32; tpd @ Nom Voltage(Max)(ns): 11,6.5,5.5,5; Logic: Inverting; Sub-Family: Inverting Buffer/Driver; 3-State Output: No; DatasheetVersion: SCES218W; PackageReference: DCK0005A; Supplier 1: Mouser; Supplier Part Number 1: 595-SN74LVC1G14DCKR; Supplier 2: Digi-Key; Supplier Part Number 2: 296-11608-2-ND; Supplier 3: Digi-Key; Supplier Part Number 3: 296-11608-1-ND; Supplier 4: Digi-Key; Supplier Part Number 4: 296-11608-6-ND; Operating Temperature Range(C): -40 to 125,-40 to 85; ComponentLink1Description: Manufacturer URL; ComponentLink1URL: http://www.ti.com/; ComponentLink2Description: Datasheet; ComponentLink2URL: http://www.ti.com/lit/ds/symlink/sn74lvc1g14.pdf
footprint DCK0005A_N (SOT23, 5-Leads, Body 2.15x1.4mm, Pitch 0.65mm, IPC Medium Density)
footprint DCK0005A_M (SOT23, 5-Leads, Body 2.15x1.4mm, Pitch 0.65mm, IPC Low Density)
footprint DCK0005A_L (SOT23, 5-Leads, Body 2.15x1.4mm, Pitch 0.65mm, IPC High Density)
part A pins: 2 A (in) "Input A", 4 Y (out) "Output Y"
part B pins: 1 NC "Ground", 3 GND (power) "Ground Pin", 5 VCC (power) "Power Pin"

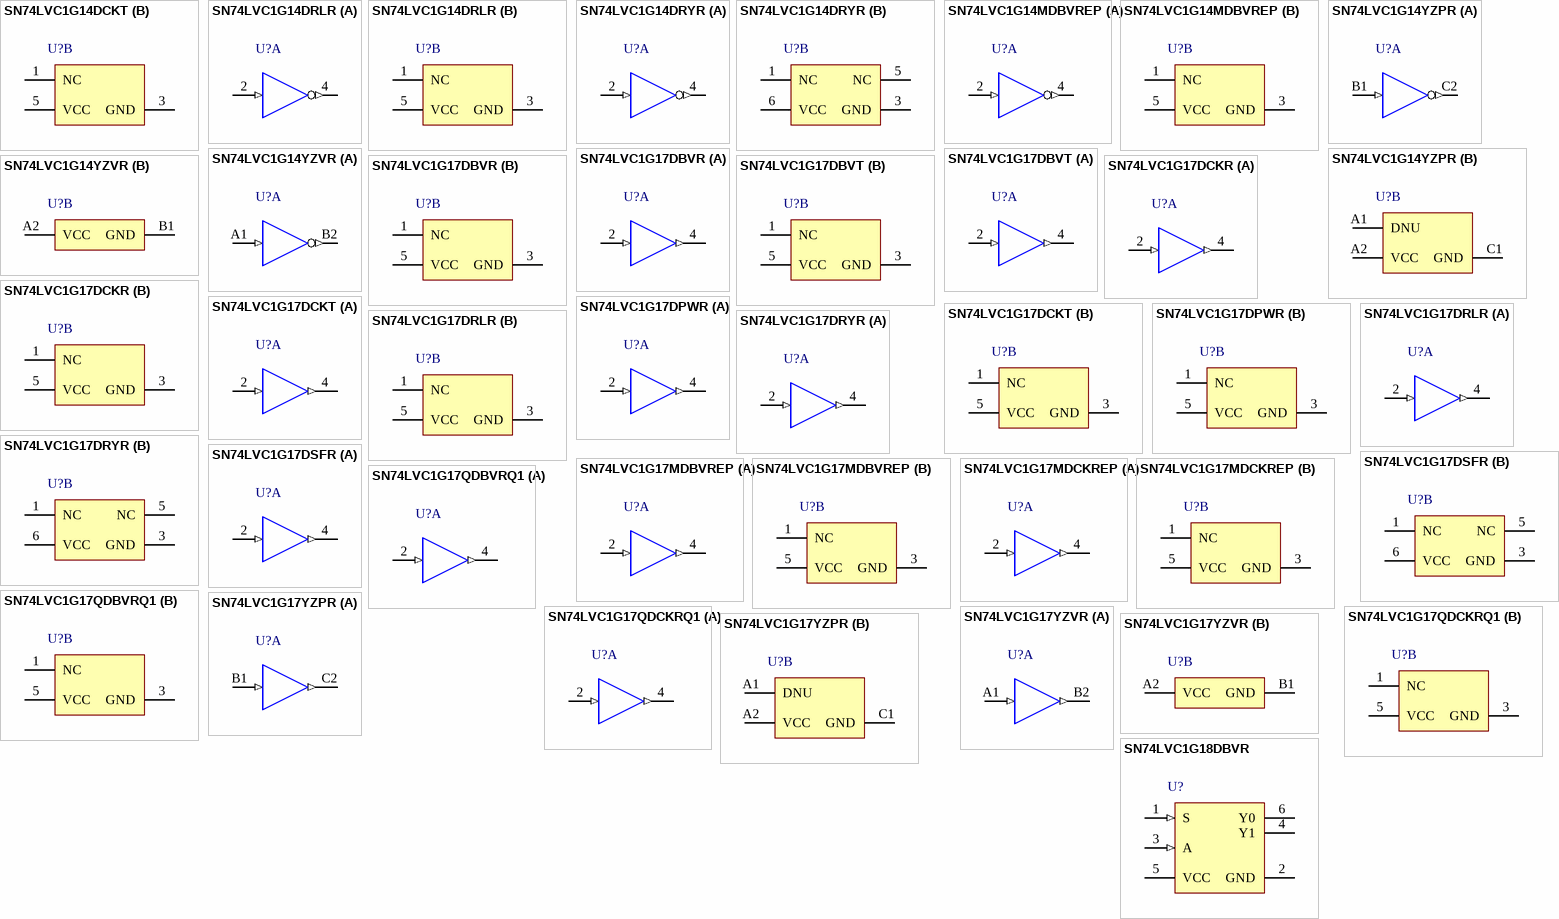
[diagram p38: symbols SN74LVC1G14DCKT to SN74LVC1G18DBVR]

## SN74LVC1G14DCKT
designator U?
Single Schmitt-Trigger Inverter, DCK0005A, SMALL T&R; Generic Part Number: SN74LVC1G14; Manufacturer: Texas Instruments; PartNumber: SN74LVC1G14DCKT; VCC(Min)(V): 1.65; VCC(Max)(V): 5.5; Output Type: CMOS; ICC @ Nom Voltage(Max)(mA): 0.01; Input Type: CMOS/TTL; Bits(#): 1; F @ Nom Voltage(Max)(Mhz): 150; Rating: Catalog; Technology Family: LVC; Voltage(Nom)(V): 1.8,2.5,3.3,5; Schmitt Trigger: Yes; Output Drive (IOL/IOH)(Max)(mA): 32/-32; tpd @ Nom Voltage(Max)(ns): 11,6.5,5.5,5; Logic: Inverting; Sub-Family: Inverting Buffer/Driver; 3-State Output: No; DatasheetVersion: SCES218W; PackageReference: DCK0005A; Supplier 1: Mouser; Supplier Part Number 1: 595-SN74LVC1G14DCKT; Supplier 2: Digi-Key; Supplier Part Number 2: 296-26598-2-ND; Supplier 3: Digi-Key; Supplier Part Number 3: 296-26598-1-ND; Supplier 4: Digi-Key; Supplier Part Number 4: 296-26598-6-ND; Operating Temperature Range(C): -40 to 125,-40 to 85; ComponentLink1Description: Manufacturer URL; ComponentLink1URL: http://www.ti.com/; ComponentLink2Description: Datasheet; ComponentLink2URL: http://www.ti.com/lit/ds/symlink/sn74lvc1g14.pdf
footprint DCK0005A_N (SOT23, 5-Leads, Body 2.15x1.4mm, Pitch 0.65mm, IPC Medium Density)
footprint DCK0005A_M (SOT23, 5-Leads, Body 2.15x1.4mm, Pitch 0.65mm, IPC Low Density)
footprint DCK0005A_L (SOT23, 5-Leads, Body 2.15x1.4mm, Pitch 0.65mm, IPC High Density)
part A pins: 2 A (in) "Input A", 4 Y (out) "Output Y"
part B pins: 1 NC "Ground", 3 GND (power) "Ground Pin", 5 VCC (power) "Power Pin"

## SN74LVC1G14DRLR
designator U?
Single Schmitt-Trigger Inverter, DRL0005A, LARGE T&R; Generic Part Number: SN74LVC1G14; Manufacturer: Texas Instruments; PartNumber: SN74LVC1G14DRLR; VCC(Min)(V): 1.65; VCC(Max)(V): 5.5; Output Type: CMOS; ICC @ Nom Voltage(Max)(mA): 0.01; Input Type: CMOS/TTL; Bits(#): 1; F @ Nom Voltage(Max)(Mhz): 150; Rating: Catalog; Technology Family: LVC; Voltage(Nom)(V): 1.8,2.5,3.3,5; Schmitt Trigger: Yes; Output Drive (IOL/IOH)(Max)(mA): 32/-32; tpd @ Nom Voltage(Max)(ns): 11,6.5,5.5,5; Logic: Inverting; Sub-Family: Inverting Buffer/Driver; 3-State Output: No; DatasheetVersion: SCES218W; PackageReference: DRL0005A; Supplier 1: Mouser; Supplier Part Number 1: 595-SN74LVC1G14DRLR; Supplier 2: Digi-Key; Supplier Part Number 2: 296-18014-2-ND; Supplier 3: Digi-Key; Supplier Part Number 3: 296-18014-1-ND; Supplier 4: Digi-Key; Supplier Part Number 4: 296-18014-6-ND; Operating Temperature Range(C): -40 to 125,-40 to 85; ComponentLink1Description: Manufacturer URL; ComponentLink1URL: http://www.ti.com/; ComponentLink2Description: Datasheet; ComponentLink2URL: http://www.ti.com/lit/ds/symlink/sn74lvc1g14.pdf
footprint DRL0005A_N (SOT23, 5-Leads, Body 1.7x1.3mm, Pitch 0.5mm, IPC Medium Density)
footprint DRL0005A_M (SOT23, 5-Leads, Body 1.7x1.3mm, Pitch 0.5mm, IPC Low Density)
footprint DRL0005A_L (SOT23, 5-Leads, Body 1.7x1.3mm, Pitch 0.5mm, IPC High Density)
part A pins: 2 A (in) "Input A", 4 Y (out) "Output Y"
part B pins: 1 NC "Ground", 3 GND (power) "Ground Pin", 5 VCC (power) "Power Pin"

## SN74LVC1G14DRYR
designator U?
Single Schmitt-Trigger Inverter, DRY0006A, LARGE T&R; Generic Part Number: SN74LVC1G14; Manufacturer: Texas Instruments; PartNumber: SN74LVC1G14DRYR; VCC(Min)(V): 1.65; VCC(Max)(V): 5.5; Output Type: CMOS; ICC @ Nom Voltage(Max)(mA): 0.01; Input Type: CMOS/TTL; Bits(#): 1; F @ Nom Voltage(Max)(Mhz): 150; Rating: Catalog; Technology Family: LVC; Voltage(Nom)(V): 1.8,2.5,3.3,5; Schmitt Trigger: Yes; Output Drive (IOL/IOH)(Max)(mA): 32/-32; tpd @ Nom Voltage(Max)(ns): 11,6.5,5.5,5; Logic: Inverting; Sub-Family: Inverting Buffer/Driver; 3-State Output: No; DatasheetVersion: SCES218W; PackageReference: DRY0006A; Supplier 1: Mouser; Supplier Part Number 1: 595-SN74LVC1G14DRYR; Supplier 2: Digi-Key; Supplier Part Number 2: 296-21545-2-ND; Supplier 3: Digi-Key; Supplier Part Number 3: 296-21545-1-ND; Supplier 4: Digi-Key; Supplier Part Number 4: 296-21545-6-ND; Operating Temperature Range(C): -40 to 125,-40 to 85; ComponentLink1Description: Manufacturer URL; ComponentLink1URL: http://www.ti.com/; ComponentLink2Description: Datasheet; ComponentLink2URL: http://www.ti.com/lit/ds/symlink/sn74lvc1g14.pdf
footprint DRY0006A_V (SON, 6-Leads, Body 1.45x1mm, Pitch 0.5mm)
part A pins: 2 A (in), 4 Y (out)
part B pins: 1 NC, 3 GND (power), 5 NC, 6 VCC (power)

## SN74LVC1G14MDBVREP
designator U?
Enhanced Product Single Schmitt-Trigger Inverter, DBV0005A, LARGE T&R; Generic Part Number: SN74LVC1G14-EP; Manufacturer: Texas Instruments; PartNumber: SN74LVC1G14MDBVREP; VCC(Min)(V): 1.65; VCC(Max)(V): 5.5; Output Type: CMOS; ICC @ Nom Voltage(Max)(mA): 0.019; Input Type: CMOS/TTL; Bits(#): 1; F @ Nom Voltage(Max)(Mhz): 150; Rating: HiRel Enhanced Product; Technology Family: LVC; Voltage(Nom)(V): 1.8,2.5,3.3,5; Schmitt Trigger: Yes; Output Drive (IOL/IOH)(Max)(mA): 32/-32; tpd @ Nom Voltage(Max)(ns): 16,7.5,6,5; Logic: Inverting; Sub-Family: Inverting Buffer/Driver; 3-State Output: No; DatasheetVersion: SCES674; PackageReference: DBV0005A; Supplier 1: Mouser; Supplier Part Number 1: 595-SN74LVC14MDBVREP; Supplier 2: Digi-Key; Supplier Part Number 2: 296-22346-2-ND; Supplier 3: Digi-Key; Supplier Part Number 3: 296-22346-1-ND; Supplier 4: Digi-Key; Supplier Part Number 4: 296-22346-6-ND; Operating Temperature Range(C): -55 to 125; ComponentLink1Description: Manufacturer URL; ComponentLink1URL: http://www.ti.com/; ComponentLink2Description: Datasheet; ComponentLink2URL: http://www.ti.com/lit/ds/symlink/sn74lvc1g14-ep.pdf
footprint DBV0005A_N (SOT23, 5-Leads, Body 3.05x1.75mm, Pitch 0.95mm, IPC Medium Density)
footprint DBV0005A_M (SOT23, 5-Leads, Body 3.05x1.75mm, Pitch 0.95mm, IPC Low Density)
footprint DBV0005A_L (SOT23, 5-Leads, Body 3.05x1.75mm, Pitch 0.95mm, IPC High Density)
part A pins: 2 A (in) "Input A", 4 Y (out) "Output Y"
part B pins: 1 NC "Ground", 3 GND (power) "Ground Pin", 5 VCC (power) "Power Pin"

## SN74LVC1G14YZPR
designator U?
Single Schmitt-Trigger Inverter, YZP0005ADAD, LARGE T&R; Generic Part Number: SN74LVC1G14; Manufacturer: Texas Instruments; PartNumber: SN74LVC1G14YZPR; VCC(Min)(V): 1.65; VCC(Max)(V): 5.5; Output Type: CMOS; ICC @ Nom Voltage(Max)(mA): 0.01; Input Type: CMOS/TTL; Bits(#): 1; F @ Nom Voltage(Max)(Mhz): 150; Rating: Catalog; Technology Family: LVC; Voltage(Nom)(V): 1.8,2.5,3.3,5; Schmitt Trigger: Yes; Output Drive (IOL/IOH)(Max)(mA): 32/-32; tpd @ Nom Voltage(Max)(ns): 11,6.5,5.5,5; Logic: Inverting; Sub-Family: Inverting Buffer/Driver; 3-State Output: No; DatasheetVersion: SCES218W; PackageReference: YZP0005ADAD; Supplier 1: Mouser; Supplier Part Number 1: 595-SN74LVC1G14YZPR; Supplier 2: Digi-Key; Supplier Part Number 2: 296-14363-2-ND; Supplier 3: Digi-Key; Supplier Part Number 3: 296-14363-1-ND; Supplier 4: Digi-Key; Supplier Part Number 4: 296-14363-6-ND; Operating Temperature Range(C): -40 to 125,-40 to 85; ComponentLink1Description: Manufacturer URL; ComponentLink1URL: http://www.ti.com/; ComponentLink2Description: Datasheet; ComponentLink2URL: http://www.ti.com/lit/ds/symlink/sn74lvc1g14.pdf
footprint YZP0005ADAD (BGA, 5-Balls, Body 1.39x0.89mm, Pitch 0.5mm)
part A pins: B1 A (in) "Input", C2 Y (out) "Output"
part B pins: A1 DNU "Do not use", A2 VCC (power) "Power terminal", C1 GND (power) "Ground"

## SN74LVC1G14YZVR
designator U?
Single Schmitt-Trigger Inverter, YZV0004ADAD, LARGE T&R; Generic Part Number: SN74LVC1G14; Manufacturer: Texas Instruments; PartNumber: SN74LVC1G14YZVR; VCC(Min)(V): 1.65; VCC(Max)(V): 5.5; Output Type: CMOS; ICC @ Nom Voltage(Max)(mA): 0.01; Input Type: CMOS/TTL; Bits(#): 1; F @ Nom Voltage(Max)(Mhz): 150; Rating: Catalog; Technology Family: LVC; Voltage(Nom)(V): 1.8,2.5,3.3,5; Schmitt Trigger: Yes; Output Drive (IOL/IOH)(Max)(mA): 32/-32; tpd @ Nom Voltage(Max)(ns): 11,6.5,5.5,5; Logic: Inverting; Sub-Family: Inverting Buffer/Driver; 3-State Output: No; DatasheetVersion: SCES218W; PackageReference: YZV0004ADAD; Supplier 1: Mouser; Supplier Part Number 1: 595-SN74LVC1G14YZVR; Supplier 2: Digi-Key; Supplier Part Number 2: 296-20701-2-ND; Supplier 3: Digi-Key; Supplier Part Number 3: 296-20701-1-ND; Supplier 4: Digi-Key; Supplier Part Number 4: 296-20701-6-ND; Operating Temperature Range(C): -40 to 125,-40 to 85; ComponentLink1Description: Manufacturer URL; ComponentLink1URL: http://www.ti.com/; ComponentLink2Description: Datasheet; ComponentLink2URL: http://www.ti.com/lit/ds/symlink/sn74lvc1g14.pdf
footprint YZV0004ADAD (BGA, 4-Balls, Body 0.89x0.89mm, Pitch 0.5mm)
part A pins: A1 A (in) "Input", B2 Y (out) "Output"
part B pins: A2 VCC (power) "Power pin", B1 GND (power) "Ground"

## SN74LVC1G17DBVR
designator U?
Single Schmitt-Trigger Buffer, DBV0005A, LARGE T&R; Generic Part Number: SN74LVC1G17; Manufacturer: Texas Instruments; PartNumber: SN74LVC1G17DBVR; VCC(Min)(V): 1.65; VCC(Max)(V): 5.5; Output Type: CMOS; ICC @ Nom Voltage(Max)(mA): 0.01; Input Type: CMOS/TTL; Bits(#): 1; F @ Nom Voltage(Max)(Mhz): 150; Rating: Catalog; Technology Family: LVC; Voltage(Nom)(V): 1.8,2.5,3.3,5; Schmitt Trigger: Yes; Output Drive (IOL/IOH)(Max)(mA): 32/-32; tpd @ Nom Voltage(Max)(ns): 11,6.5,5.5,5; Logic: True; Sub-Family: Non-Inverting Buffer/Driver; 3-State Output: No; DatasheetVersion: SCES351V; PackageReference: DBV0005A; Supplier 1: Mouser; Supplier Part Number 1: 595-SN74LVC1G17DBVR; Supplier 2: Digi-Key; Supplier Part Number 2: 296-11933-2-ND; Supplier 3: Digi-Key; Supplier Part Number 3: 296-11933-1-ND; Supplier 4: Digi-Key; Supplier Part Number 4: 296-11933-6-ND; Operating Temperature Range(C): -40 to 125,-40 to 85; ComponentLink1Description: Manufacturer URL; ComponentLink1URL: http://www.ti.com/; ComponentLink2Description: Datasheet; ComponentLink2URL: http://www.ti.com/lit/ds/symlink/sn74lvc1g17.pdf
footprint DBV0005A_N (SOT23, 5-Leads, Body 3.05x1.75mm, Pitch 0.95mm, IPC Medium Density)
footprint DBV0005A_M (SOT23, 5-Leads, Body 3.05x1.75mm, Pitch 0.95mm, IPC Low Density)
footprint DBV0005A_L (SOT23, 5-Leads, Body 3.05x1.75mm, Pitch 0.95mm, IPC High Density)
part A pins: 2 A (in) "Input", 4 Y (out) "Output"
part B pins: 1 NC "Ground", 3 GND (power) "Ground Pin", 5 VCC (power) "Power Pin"

## SN74LVC1G17DBVT
designator U?
Single Schmitt-Trigger Buffer, DBV0005A, SMALL T&R; Generic Part Number: SN74LVC1G17; Manufacturer: Texas Instruments; PartNumber: SN74LVC1G17DBVT; VCC(Min)(V): 1.65; VCC(Max)(V): 5.5; Output Type: CMOS; ICC @ Nom Voltage(Max)(mA): 0.01; Input Type: CMOS/TTL; Bits(#): 1; F @ Nom Voltage(Max)(Mhz): 150; Rating: Catalog; Technology Family: LVC; Voltage(Nom)(V): 1.8,2.5,3.3,5; Schmitt Trigger: Yes; Output Drive (IOL/IOH)(Max)(mA): 32/-32; tpd @ Nom Voltage(Max)(ns): 11,6.5,5.5,5; Logic: True; Sub-Family: Non-Inverting Buffer/Driver; 3-State Output: No; DatasheetVersion: SCES351V; PackageReference: DBV0005A; Supplier 1: Mouser; Supplier Part Number 1: 595-SN74LVC1G17DBVT; Supplier 2: Digi-Key; Supplier Part Number 2: 296-26599-2-ND; Supplier 3: Digi-Key; Supplier Part Number 3: 296-26599-1-ND; Supplier 4: Digi-Key; Supplier Part Number 4: 296-26599-6-ND; Operating Temperature Range(C): -40 to 125,-40 to 85; ComponentLink1Description: Manufacturer URL; ComponentLink1URL: http://www.ti.com/; ComponentLink2Description: Datasheet; ComponentLink2URL: http://www.ti.com/lit/ds/symlink/sn74lvc1g17.pdf
footprint DBV0005A_N (SOT23, 5-Leads, Body 3.05x1.75mm, Pitch 0.95mm, IPC Medium Density)
footprint DBV0005A_M (SOT23, 5-Leads, Body 3.05x1.75mm, Pitch 0.95mm, IPC Low Density)
footprint DBV0005A_L (SOT23, 5-Leads, Body 3.05x1.75mm, Pitch 0.95mm, IPC High Density)
part A pins: 2 A (in) "Input", 4 Y (out) "Output"
part B pins: 1 NC "Ground", 3 GND (power) "Ground Pin", 5 VCC (power) "Power Pin"